# EAGLE library part CTS7461011 (library home)
Network Resistor CTS 753 Series Leadless Surface Mount Source: http://www.ctscorp.com/components/Datasheets/753.pdf Distributor: Digi Key
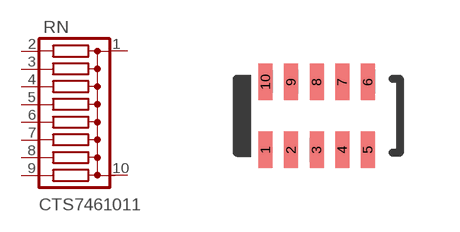
[diagram p3: symbol with the pads of CTS746; footprint CTS746]

Designator prefix RN

## CTS7461011  [CTS746]
1  1C  pas
2  2  pas
3  3  pas
4  4  pas
5  5  pas
6  6  pas
7  7  pas
8  8  pas
9  9  pas
10  10C  pas

## Footprint CTS746 (pad centres in mm)
Network Resistor Leadless Surface Mount Series 753 Source: http://www.ctscorp.com/components/Datasheets/753.pdf
smd 0.35 x 0.9: 1 -1.28,-0.85; 2 -0.64,-0.85; 3 0,-0.85; 4 0.64,-0.85; 5 1.28,-0.85; 6 1.28,0.85; 7 0.64,0.85; 8 0,0.85; 9 -0.64,0.85; 10 -1.28,0.85